# EAGLE library part FMZ15 (library 08_CONECTOR)
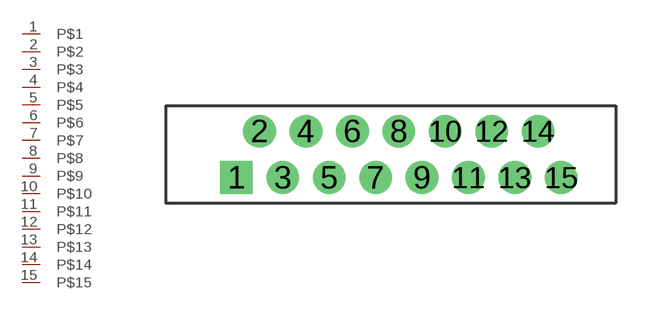
[diagram p12: symbol with the pads of FMZ15; footprint FMZ15]

Designator prefix -

## FMZ15  [FMZ15]
1  P$1
2  P$2
3  P$3
4  P$4
5  P$5
6  P$6
7  P$7
8  P$8
9  P$9
10  P$10
11  P$11
12  P$12
13  P$13
14  P$14
15  P$15

## Footprint FMZ15 (pad centres in mm)
drill 0.9 square: 1 -7,-1
drill 0.9: 2 -6,1; 3 -5,-1; 4 -4,1; 5 -3,-1; 6 -2,1; 7 -1,-1; 8 0,1; 9 1,-1; 10 2,1; 11 3,-1; 12 4,1; 13 5,-1; 14 6,1; 15 7,-1